# EAGLE library part WEMOS-D1 (library SPCoast)
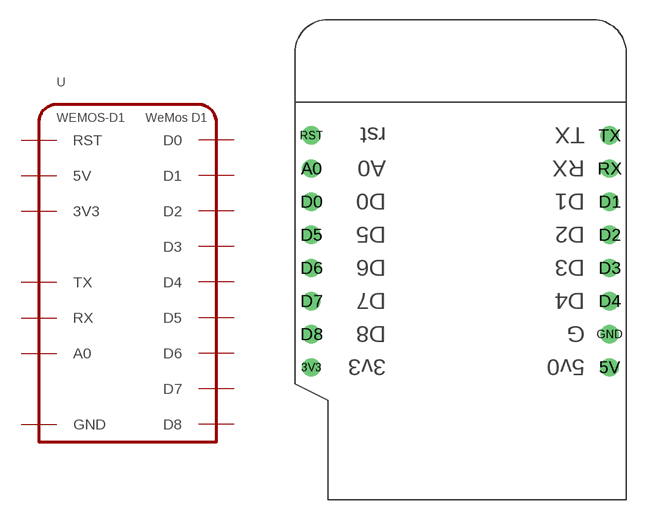
[diagram p46: symbol with the pads of WEMOS-D1; footprint WEMOS-D1]

Designator prefix -

## WEMOS-D1V1  [WEMOS-D1]
3V3  3V3
5V  5V
A0  A0
D0  D0
D1  D1
D2  D2
D3  D3
D4  D4
D5  D5
D6  D6
D7  D7
D8  D8
GND  GND
RST  RST
RX  RX
TX  TX

## Footprint WEMOS-D1 (pad centres in mm)
drill 0.9: 3V3 -11.43,-7.62; 5V 11.43,-7.62; A0 -11.43,7.62; D0 -11.43,5.08; D1 11.43,5.08; D2 11.43,2.54; D3 11.43,0; D4 11.43,-2.54; D5 -11.43,2.54; D6 -11.43,0; D7 -11.43,-2.54; D8 -11.43,-5.08; GND 11.43,-5.08; RST -11.43,10.16; RX 11.43,7.62; TX 11.43,10.16